# EAGLE library part ICL7660 (library balmer)
Voltage inverter
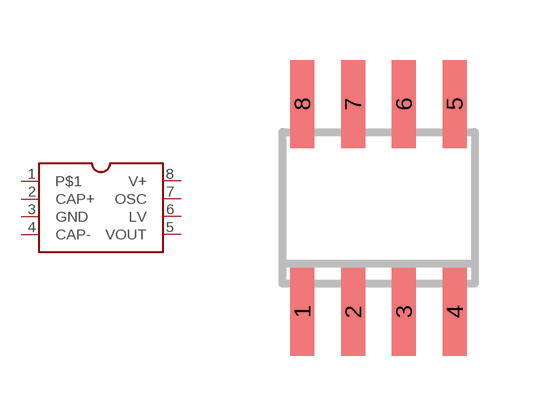
[diagram p8: symbol with the pads of SO8; footprint SO8]

Designator prefix -

## ICL7660  [SO8]
1  P$1  nc
2  CAP+
3  GND
4  CAP-
5  VOUT  out
6  LV
7  OSC
8  V+  pwr

## Footprint SO8 (pad centres in mm)
8-Lead Small Outline IC (SO-8) Source: http://www.analog.com/UploadedFiles/Data_Sheets/703465986AD8611_2_0.pdf
smd 0.6 x 2.2: 1 -1.905,-2.6; 2 -0.635,-2.6; 3 0.635,-2.6; 4 1.905,-2.6; 5 1.905,2.6; 6 0.635,2.6; 7 -0.635,2.6; 8 -1.905,2.6